# Altium schematic symbol library MSP432 DEV BOARD.SchLib: 1 symbol
Pins are listed as number, name and electrical type; pins without a type are passive.

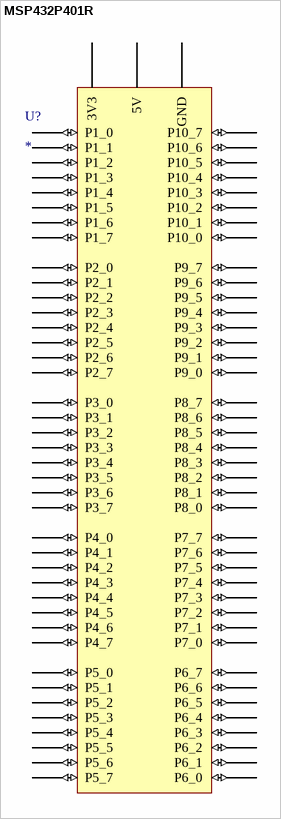
[diagram p0: symbol MSP432P401R]

## MSP432P401R
designator U?
pins: 1 3V3 (power), 2 P1_0 (io), 3 P1_1 (io), 4 P1_2 (io), 5 P1_3 (io), 6 P1_4 (io), 7 P1_5 (io), 8 P1_6 (io), 9 P1_7 (io), 10 P2_0 (io), 11 P2_1 (io), 12 P2_2 (io), 13 P2_3 (io), 14 P2_4 (io), 15 P2_5 (io), 16 P2_6 (io), 17 P2_7 (io), 18 P3_0 (io), 19 P3_1 (io), 20 P3_2 (io), 21 P3_3 (io), 22 P3_4 (io), 23 P3_5 (io), 24 P3_6 (io), 25 P3_7 (io), 26 P4_0 (io), 27 P4_1 (io), 28 P4_2 (io), 29 P4_3 (io), 30 P4_4 (io), 31 P4_5 (io), 32 P4_6 (io), 33 P4_7 (io), 34 P5_0 (io), 35 P5_1 (io), 36 P5_2 (io), 37 P5_3 (io), 38 P5_4 (io), 39 P5_5 (io), 40 P5_6 (io), 41 P5_7 (io), 42 P6_0 (io), 43 P6_1 (io), 44 P6_2 (io), 45 P6_3 (io), 46 P6_4 (io), 47 P6_5 (io), 48 P6_6 (io), 49 P6_7 (io), 50 P7_0 (io), 51 P7_1 (io), 52 P7_2 (io), 53 P7_3 (io), 54 P7_4 (io), 55 P7_5 (io), 56 P7_6 (io), 57 P7_7 (io), 58 P8_0 (io), 59 P8_1 (io), 60 P8_2 (io), 61 P8_3 (io), 62 P8_4 (io), 63 P8_5 (io), 64 P8_6 (io), 65 P8_7 (io), 66 P9_0 (io), 67 P9_1 (io), 68 P9_2 (io), 69 P9_3 (io), 70 P9_4 (io), 71 P9_5 (io), 72 P9_6 (io), 73 P9_7 (io), 74 P10_0 (io), 75 P10_1 (io), 76 P10_2 (io), 77 P10_3 (io), 78 P10_4 (io), 79 P10_5 (io), 80 P10_6 (io), 81 P10_7 (io), 82 5V (power), 83 GND (power)